# Altium schematic symbol library SCH - POWER - SWITCHMODE - TI TPS54229E_DDA_8.SchLib: 1 symbol
Pins are listed as number, name and electrical type; pins without a type are passive.

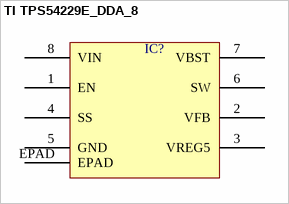
[diagram p0: symbol TI TPS54229E_DDA_8]

## TI TPS54229E_DDA_8
designator IC?  (value not drawn)
pins: 1 EN, 2 VFB, 3 VREG5, 4 SS, 5 GND, 6 SW, 7 VBST, 8 VIN, EPAD